# Altium schematic symbol library SnapEDAsch.SchLib: 1 symbol
Pins are listed as number, name and electrical type; pins without a type are passive.

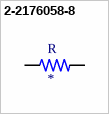
[diagram p0: symbol 2-2176058-8]

## 2-2176058-8
designator R
RES 0.13 OHM 5% 2W 2512; MP: 2-2176058-8; MF: TE Connectivity; Resistance: .13; Package: 2512; Availability: Unavailable; SnapEDA_Link: https://www.snapeda.com/parts/2-2176058-8/TE%20Connectivity/view-part/2214540/?ref=snap; Value: *; Price: None; Power_Rating: 2 W; EU_RoHS_Compliance: Compliant with Exemptions; Tolerance: 5%
footprint RESC6331X70N
pins: 1, 2